# Altium footprint library acopians-powerspy-ac-power-hw-library-pcb.PcbLib: 43 footprints (part 1 of 3)
Each footprint in its own frame and in the unit in brackets; x right, y up, seen from the top. Pads: shape width x height; smd on the part's side, far side on the other; paste and mask are expansions set on the pad; w line width, h text height; cw(c..) or ccw(c..) is an arc to the next point about the centre after c.
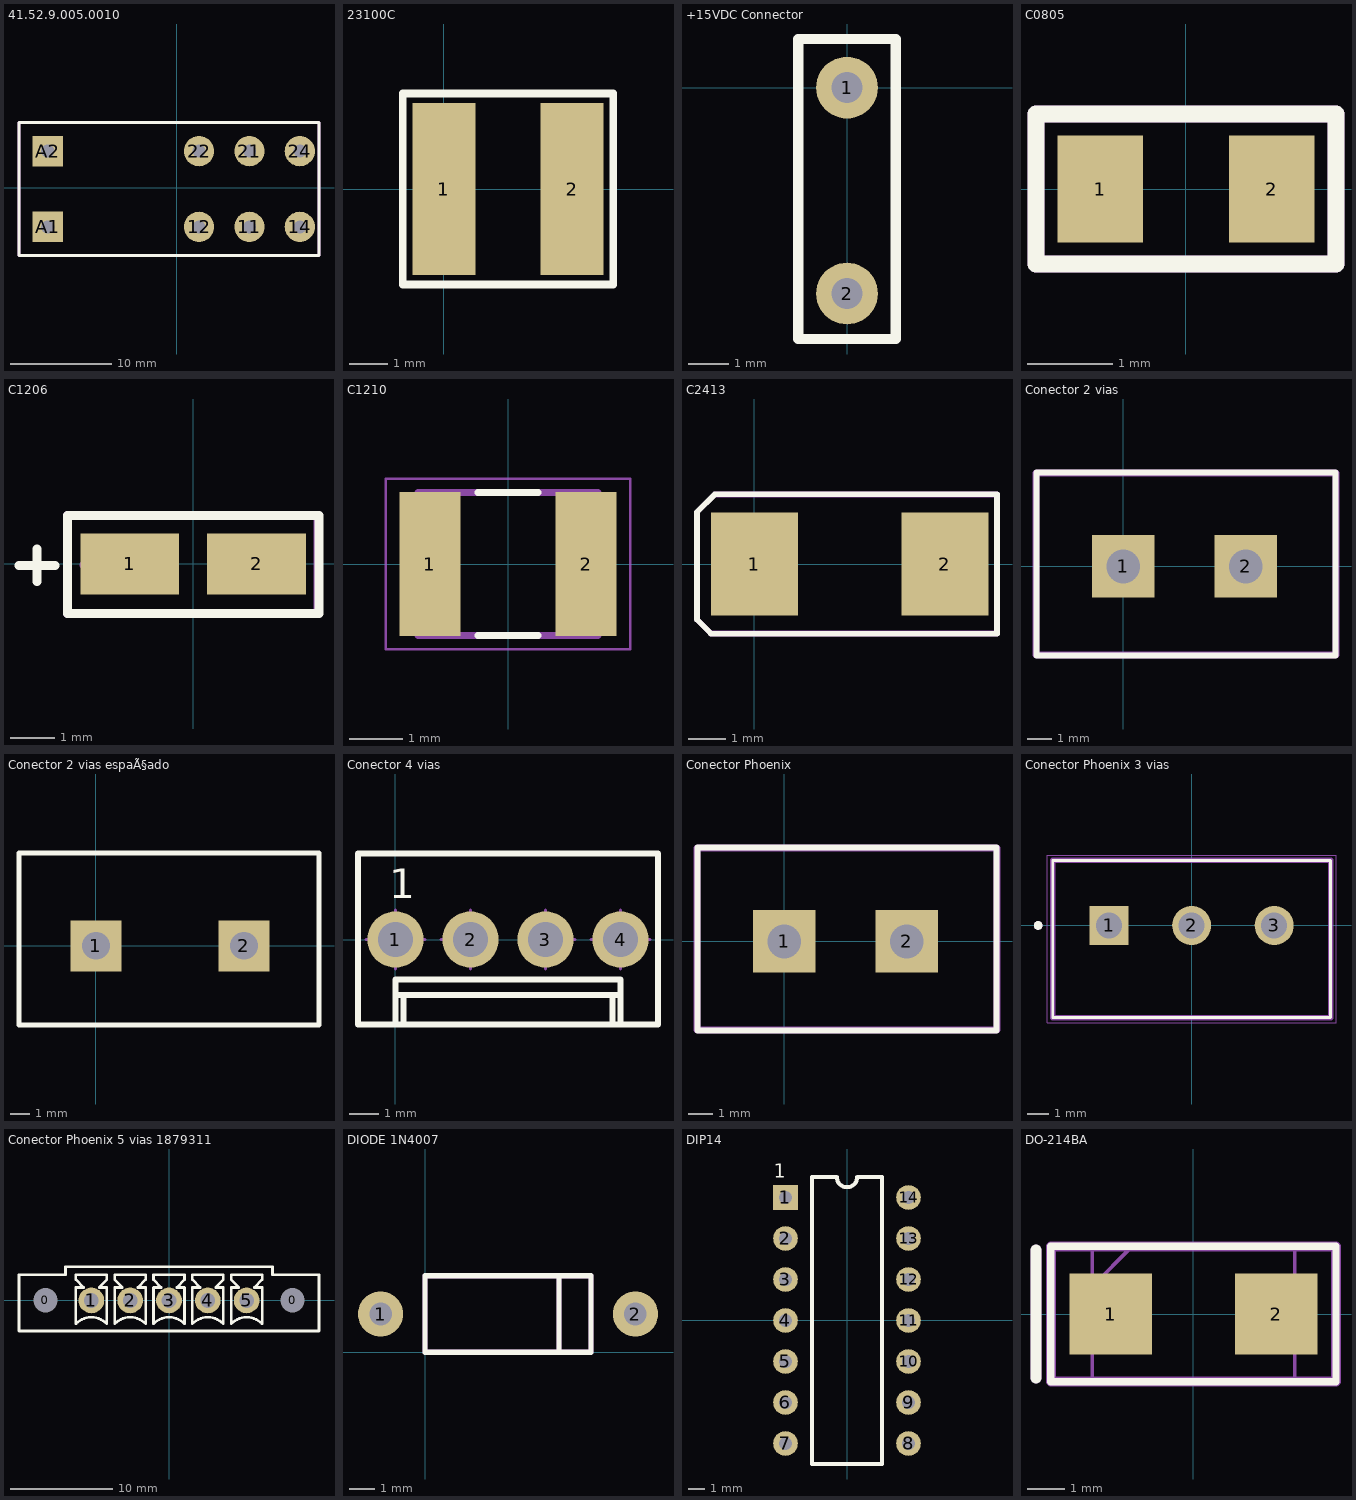
[diagram p0: the footprints below, top view; thin cyan lines are the x and y axes]

## 41.52.9.005.0010 [mm] "Low Profile PCB Relay, 2 CO DPDT, 8A, Coil: 5VDC"
pads (8):
  round 3 hole 1.3: 11(7.193,-3.873) 12(2.193,-3.873) 14(12.193,-3.873) 21(7.193,3.627) 22(2.193,3.627) 24(12.193,3.627)
  rect 3x3 hole 1.3: A1(-12.807,-3.873) A2(-12.807,3.627)
Top Overlay:
  lines w0.3: -15.657,-6.698 14.093,-6.698 14.093,6.452 -15.657,6.452 -15.657,-6.698
Mechanical 13:
  text ".Designator" at -4.68,-0.331 h2
Mechanical 29:
  lines w0.3: -15.657,-6.698 -15.657,6.452 14.093,6.452 14.093,-6.698 -15.657,-6.698
  text "RL?" at -6.657,-1.048 h1.52
3D body "Rele Finder 41-52-9-012-0010.stp": height 15.78, standoff -3.73, extent -15.347,-6.372 13.653,6.128

## 23100C [mm]
pads (2):
  rect 1.65x4.5 smd: 1(0,0) 2(3.35,0)
Top Overlay:
  lines w0.2: -1.075,-2.5 -1.075,0 -1.075,2.5 4.425,2.5 4.425,-2.5 -1.075,-2.5

## +15VDC Connector [mil]
pads (2):
  round 60 hole 30: 1(0,0) 2(0,-200)
Top Overlay:
  lines w10: -47.24,-244.09 -47.24,47.24 47.24,47.24 47.24,-244.09 -47.24,-244.09

## C0805 [mm]
pads (2):
  rect 1x1.25 smd: 1(-1,0) 2(1,0)
Top Overlay:
  lines w0.2: -1.75,-0.875 -1.75,0.875 1.75,0.875 1.75,-0.875 -1.75,-0.875
Mechanical 13:
  text ".Designator" at -0.254,-0.241 h0.8
Mechanical 29:
  lines w0.2: -1.75,-0.875 1.75,-0.875 1.75,0.875 -1.75,0.875 -1.75,-0.875
  text "'.Designator'" at -1.475,-0.45 h1
3D body "User Library-CAPC2013X10 (1).step": height 1.01, standoff 0.01, extent -1,-0.625 1,0.625

## C1206 [mm]
pads (2):
  rect 2.2x1.35 smd: 1(-1.41,0) 2(1.41,0)
Top Overlay:
  lines w0.2: -3.875,-0.038 -3.075,-0.038 ; -3.475,-0.388 -3.475,0.337 ; -2.8,-1.1 -2.8,1.075 2.8,1.075 2.8,-1.1 -2.8,-1.1
Mechanical 13:
  text ".Designator" at -0.635,-0.368 h0.8
Mechanical 29:
  lines w0.2: -2.425,-0.025 -1.75,-0.025 ; -2.1,-0.35 -2.1,0.3 ; -2.8,-1.1 2.775,-1.1 2.775,1.075 -2.8,1.075 -2.8,-1.1
  text "'.Designator'" at -1.225,-0.45 h1
3D body "C1206.step": height 1.87, standoff 0.01, extent -1.727,-0.902 1.677,0.902

## C1210 [mm]
pads (2):
  rect 1.16x2.72 smd: 1(-1.475,0) 2(1.475,0)
Top Overlay:
  lines w0.127: -0.57,-1.35 0.57,-1.35 ; -0.57,1.35 0.57,1.35
Mechanical 13:
  lines w0.127: -1.7,-1.35 1.7,-1.35 1.7,1.35 -1.7,1.35 -1.7,-1.35
  text ".Designator" at -0.795,-0.422 h0.8
Mechanical 15:
  lines w0.05: -2.308,-1.608 2.308,-1.608 2.308,1.608 -2.308,1.608 -2.308,-1.608
3D body "C1210C475K5RACTU.STEP": height 1.9, standoff 0, extent -1.6,-1.25 1.6,1.25

## C2413 [mm]
pads (2):
  rect 2.35x2.77 smd: 1(0,0) 2(5.14,0)
Top Overlay:
  lines w0.152: -1.55,-1.5 -1.17,-1.88 6.55,-1.88 6.55,1.88 -1.07,1.88 -1.55,1.4 -1.55,-1.5
Mechanical 13:
  circle w0: c-0.724,0 r0.076
  text ".Designator" at 2.159,-0.368 h0.8
Mechanical 29:
  lines w0.152: -1.55,-1.5 -1.175,-1.875 6.55,-1.875 6.55,1.875 -1.075,1.875 -1.55,1.4 -1.55,-1.5
  text "'.Designator'" at 0.875,-0.325 h0.9
3D body "C2413.step": height 2.86, standoff 0.01, extent -0.803,-1.75 5.953,1.755

## Conector 2 vias [mm]
pads (2):
  rect 2.6x2.6 hole 1.4 square: 1(0,0) 2(5.08,0)
Top Overlay:
  lines w0.254: -3.6,-3.7 -3.6,3.9 -3.48,3.9 8.8,3.9 8.8,-3.7 -1.4,-3.7 -3.6,-3.7
Mechanical 13:
  text ".Designator" at -2.246,-0.246 h1.2
Mechanical 29:
  lines w0.3: -3.625,-3.675 8.825,-3.675 8.825,3.875 -3.625,3.875 -3.625,-3.675
  text "'.Designator'" at 0.8,-0.4 h1
3D body "Conector 2 vias.stp": height 12.05, standoff -3.85, extent -3.48,-4.7 8.68,3.9
3D body "pxc_1757019_08_MSTB-2-5-2-ST-5-08_3D.stp": height 21.98, standoff 3.68, extent -2.52,-11.4 7.7,3.6

## Conector 2 vias espaÃ§ado [mm]
pads (2):
  rect 2.6x2.6 hole 1.4 square: 1(0,0) 2(7.5,0)
Top Overlay:
  lines w0.254: -3.9,-4 11.3,-4 11.3,4.7 -3.9,4.7 -3.9,-4
Mechanical 13:
  text ".Designator" at 1.954,-0.396 h1.35
3D body "pxc_1766880_04_GMSTB-2-5-2-ST_3D.stp": height 22.03, standoff 3.83, extent -2.8,-3.6 10.2,11.4
3D body "pxc_1766660_05_GMSTBVA-2-5-2-G_3D.stp": height 12.03, standoff -3.87, extent -3.8,-3.8 11.2,4.8

## Conector 4 vias [mm]
pads (4):
  round 1.9 hole 1.2: 1(0,0) 2(2.54,0) 3(5.08,0) 4(7.62,0)
Top Overlay:
  lines w0.2: 0,-2.883 0,-1.353 7.62,-1.353 7.62,-2.883 ; 0,-1.883 7.62,-1.883 ; 0.273,-2.883 0.273,-1.883 ; 7.347,-2.883 7.347,-1.883 ; -1.27,-2.883 -1.27,2.918 8.89,2.918 8.89,-2.883 -1.27,-2.883
  text "1" at -0.21,1.395 h1
Mechanical 8:
  lines w0.1: -1,0 0,0 ; 0,-1 0,0 ; 0,1 0,0 ; 1,0 0,0 ; 1.54,0 2.54,0 ; 2.54,-1 2.54,0 ; 2.54,1 2.54,0 ; 5.08,-1 5.08,0 ; 5.08,1 5.08,0 ; 6.08,0 5.08,0 ; 6.62,0 7.62,0 ; 7.62,-1 7.62,0 ; 7.62,1 7.62,0 ; 8.62,0 7.62,0
Mechanical 13:
  text ".Designator" at 2.154,1.254 h1.2
Mechanical 14:
  lines w0.1: 0,-2.883 0,-1.353 7.62,-1.353 7.62,-2.883 ; 0,-1.883 7.62,-1.883 ; 0.273,-2.883 0.273,-1.883 ; 7.347,-2.883 7.347,-1.883 ; -1.27,-2.883 -1.27,2.918 8.89,2.918 8.89,-2.883 -1.27,-2.883 ; -0.32,-0.318 0.32,-0.318 0.32,0.318 -0.32,0.318 -0.32,-0.318 ; 2.22,-0.318 2.86,-0.318 2.86,0.318 2.22,0.318 2.22,-0.318 ; 4.76,-0.318 5.4,-0.318 5.4,0.318 4.76,0.318 4.76,-0.318 ; 7.3,-0.318 7.94,-0.318 7.94,0.318 7.3,0.318 7.3,-0.318
  text "1" at -0.21,1.395 h1
3D body "MOLEX_22-27-2041.stp": height 11.7, standoff -3.56, extent -1.27,-2.883 8.89,2.917

## Conector Phoenix [mm]
pads (2):
  rect 2.6x2.6 hole 1.4 square: 1(0,0) 2(5.08,0)
Top Overlay:
  lines w0.254: -3.6,-3.7 -1.4,-3.7 8.8,-3.7 8.8,3.9 -3.48,3.9 -3.6,3.9 -3.6,-3.7
Mechanical 13:
  text ".Designator" at -0.946,-0.746 h1.5
Mechanical 29:
  lines w0.3: -3.625,-3.675 -3.625,3.875 8.825,3.875 8.825,-3.675 -3.625,-3.675
  text "'.Designator'" at 0.8,-0.4 h1
3D body "Conector 2 vias.stp": height 12.51, standoff -3.39, extent -3.48,-4.7 8.68,3.9

## Conector Phoenix 3 vias [mm] "1803439"
pads (3):
  rect 1.8x1.8 hole 1.2: 1(-3.81,0)
  round 1.8 hole 1.2: 2(0,0) 3(3.81,0)
Top Overlay:
  circle w0.2: c-7.085,0 r0.1
  lines w0.127: -6.41,-4.25 6.41,-4.25 6.41,3 -6.41,3 -6.41,-4.25
Mechanical 13:
  circle w0.2: c-7.085,0 r0.1
  lines w0.127: -6.41,-4.25 -6.41,3 6.41,3 6.41,-4.25 -6.41,-4.25
  lines w0.254: -6.41,-4.25 6.41,-4.25 6.41,3 -6.41,3 -6.41,-4.25
  text ".Designator" at -2.046,-1.246 h1.5
Mechanical 15:
  lines w0.05: -6.66,-4.5 6.66,-4.5 6.66,3.25 -6.66,3.25 -6.66,-4.5
3D body "step_temp.STEP": height 9.2, standoff -3.4, extent -6.41,-4.5 6.41,3

## Conector Phoenix 5 vias 1879311 [mm]
pads (7):
  round 1.524 hole 2.4: 0(-12.12,0) 0(12.12,0)
  round 2.524 hole 1.45: 1(-7.62,0) 2(-3.81,0) 3(0,0) 4(3.81,0) 5(7.62,0)
Top Overlay:
  lines w0.254: -14.72,-3 14.72,-3 14.72,2.54 10.16,2.54 10.16,3.302 -3.556,3.302 -10.16,3.302 -10.16,2.54 -14.72,2.54 -14.72,-3 ; -9.144,-2.286 cw(c-7.62,-3.81) -6.096,-2.286 -6.096,1.27 -6.858,1.27 -6.096,2.032 -6.096,2.54 -9.144,2.54 -9.144,2.032 -8.382,1.27 -9.144,1.27 -9.144,-2.286 ; -5.334,-2.286 cw(c-3.81,-3.81) -2.286,-2.286 -2.286,1.27 -3.048,1.27 -2.286,2.032 -2.286,2.54 -5.334,2.54 -5.334,2.032 -4.572,1.27 -5.334,1.27 -5.334,-2.286 ; -1.524,-2.286 cw(c0,-3.81) 1.524,-2.286 1.524,1.27 0.762,1.27 1.524,2.032 1.524,2.54 -1.524,2.54 -1.524,2.032 -0.762,1.27 -1.524,1.27 -1.524,-2.286 ; 2.286,-2.286 cw(c3.81,-3.81) 5.334,-2.286 5.334,1.27 4.572,1.27 5.334,2.032 5.334,2.54 2.286,2.54 2.286,2.032 3.048,1.27 2.286,1.27 2.286,-2.286 ; 6.096,-2.286 cw(c7.62,-3.81) 9.144,-2.286 9.144,1.27 8.382,1.27 9.144,2.032 9.144,2.54 6.096,2.54 6.096,2.032 6.858,1.27 6.096,1.27 6.096,-2.286
Mechanical 13:
  text ".Designator" at -7.656,-4.978 h1.52
3D body "Conector Phoenix 1879311.stp": height 9.22, standoff -3.48, extent -14.72,-3 14.72,4.25

## DIODE 1N4007 [mm] "Retifier Diode 1N4007"
pads (2):
  round 1.8 hole 0.9: 1(-1.778,1.524) 2(8.382,1.524)
Top Overlay:
  lines w0.2: 5.334,0 5.334,2.921 ; 0,0 0,3.05 6.604,3.05 6.604,0 0,0
Mechanical 13:
  text ".Designator" at 3.175,1.156 h0.8
Mechanical 29:
  lines w0.2: 5.334,0 5.334,2.921 ; 0,0 6.604,0 6.604,3.05 0,3.05 0,0
  text "D?" at 1.875,0.75 h1.52
3D body "Diodo 1N4007.stp": height 3.22, standoff -2.1, extent -2.21,0.164 8.814,2.884

## DIP14 [mil]
pads (14):
  rect 60x60 hole 32: 1(-150,300)
  round 60 hole 32: 2(-150,200) 3(-150,100) 4(-150,0) 5(-150,-100) 6(-150,-200) 7(-150,-300) 8(150,-300) 9(150,-200) 10(150,-100) 11(150,0) 12(150,100) 13(150,200) 14(150,300)
Top Overlay:
  lines w10: -85,-350 -85,350 -25,350 ccw(c0,350) 25,350 85,350 85,-350 -85,-350
  text "1" at -178.94,348.19 h33.46
Mechanical 13:
  text ".Designator" at -15,-0.01 h60
3D body "CircuitWorks-DIP-14.step": height 146.06, standoff -128.74, extent -157.48,-375 157.48,375

## DO-214BA [mm]
pads (2):
  rect 2.2x2.15 smd: 1(-2.2,0) 2(2.2,0)
Top Overlay:
  lines w0.2: -3.8,-1.81 -2.7,-1.81 2.7,-1.81 3.8,-1.81 3.8,1.81 2.7,1.81 -3.275,1.81 -3.8,1.81 -3.8,-1.81
  lines w0.3: -4.2,-1.7 -4.2,1.7
Mechanical 13:
  lines w0.254: -3.8,-1.8 3.8,-1.8 3.8,1.8 -3.8,1.8 -3.8,-1.8
  lines w0.3: -4.2,-1.7 -4.2,1.7
  text ".Designator" at -1.3,-0.467 h1
Mechanical 15:
  lines w0.1: -2.7,0.735 -1.625,1.81 ; -2.7,-1.81 2.7,-1.81 2.7,1.81 -2.7,1.81 -2.7,-1.81
3D body "LSM115JE3_TR13.stp": height 3.3, standoff 0, extent -2.7,-1.81 2.7,1.81